# EAGLE library part KLEMME_1-11 (library e-klemmen)
Klemme 11 Pol.
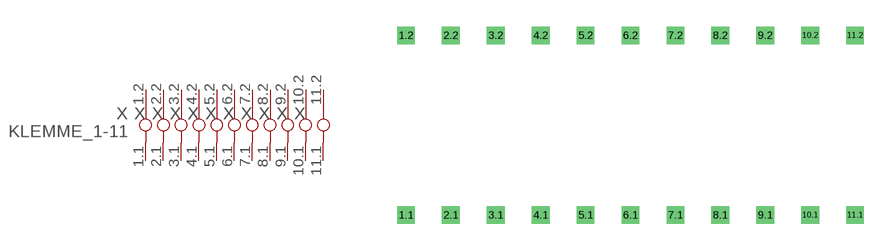
[diagram p21: symbol with the pads of KLEMME_1-11; footprint KLEMME_1-11]

Designator prefix X; gates 1=KLEMME_1-1 2=KLEMME_2 3=KLEMME_3 4=KLEMME_4 5=KLEMME_5 6=KLEMME_6 7=KLEMME_7 8=KLEMME_8 9=KLEMME_9 10=KLEMME_10 11=KLEMME_11

## KLEMME_1-11  [KLEMME_1-11]
1.1  1:1.1  pas
1.2  1:1.2  pas
2.1  2:2.1  pas
2.2  2:2.2  pas
3.1  3:3.1  pas
3.2  3:3.2  pas
4.1  4:4.1  pas
4.2  4:4.2  pas
5.1  5:5.1  pas
5.2  5:5.2  pas
6.1  6:6.1  pas
6.2  6:6.2  pas
7.1  7:7.1  pas
7.2  7:7.2  pas
8.1  8:8.1  pas
8.2  8:8.2  pas
9.1  9:9.1  pas
9.2  9:9.2  pas
10.1  10:10.1  pas
10.2  10:10.2  pas
11.1  11:11.1  pas
11.2  11:11.2  pas

## Footprint KLEMME_1-11 (pad centres in mm)
Dummy
drill 0.5 pad 1 square: 1.1 0,-12.7; 1.2 0,-2.54; 2.1 2.54,-12.7; 2.2 2.54,-2.54; 3.1 5.08,-12.7; 3.2 5.08,-2.54; 4.1 7.62,-12.7; 4.2 7.62,-2.54; 5.1 10.16,-12.7; 5.2 10.16,-2.54; 6.1 12.7,-12.7; 6.2 12.7,-2.54; 7.1 15.24,-12.7; 7.2 15.24,-2.54; 8.1 17.78,-12.7; 8.2 17.78,-2.54; 9.1 20.32,-12.7; 9.2 20.32,-2.54; 10.1 22.86,-12.7; 10.2 22.86,-2.54; 11.1 25.4,-12.7; 11.2 25.4,-2.54